# Altium schematic symbol library RES 1.54k 1_8W - 1%.Schlib: 1 symbol
Pins are listed as number, name and electrical type; pins without a type are passive.

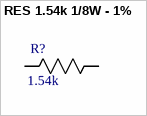
[diagram p0: symbol RES 1.54k 1/8W - 1%]

## RES 1.54k 1/8W - 1%
designator R?, comment 1.54k
RES SMD 1.54k OHM 1% 1/8W 0603; Power (Watts): 0.125W; Package: 0603; Value: 1.54k; Tolerance: 1%; Supplier 1: Digi-Key; Supplier Part Number 1: P1.54KHDKR-ND
footprint 0603
pins: 1 R1, 2 R2